# Altium footprint library fci.PcbLib: 2 footprints
Each footprint in its own frame and in the unit in brackets; x right, y up, seen from the top. Pads: shape width x height; smd on the part's side, far side on the other; paste and mask are expansions set on the pad; w line width, h text height; cw(c..) or ccw(c..) is an arc to the next point about the centre after c.
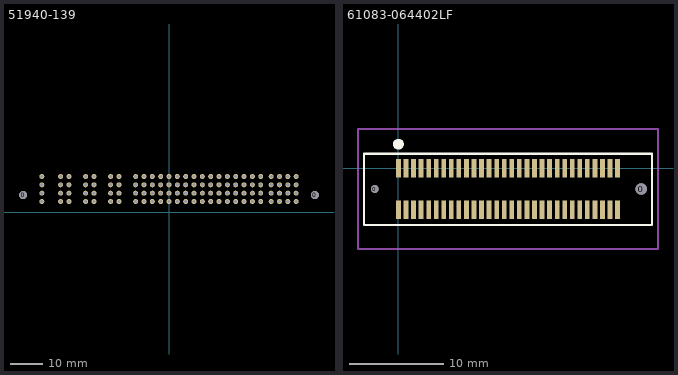
[diagram p0: the footprints below, top view; thin cyan lines are the x and y axes]

## 51940-139 [mm] "Straight Connector for TDI Charger"
pads (110):
  round 2.49 hole 2.49: 0(-44.45,5.21) 0(44.45,5.21)
  round 1.5 hole 1.02: A1(38.735,3.25) A2(36.195,3.25) A3(33.655,3.25) A4(31.115,3.25) A5(-38.735,3.25) B1(38.735,5.79) B2(36.195,5.79) B3(33.655,5.79) B4(31.115,5.79) B5(-38.735,5.79) C1(38.735,8.33) C2(36.195,8.33) C3(33.655,8.33) C4(31.115,8.33) C5(-38.735,8.33) D1(38.735,10.87) D2(36.195,10.87) D3(33.655,10.87) D4(31.115,10.87) D5(-38.735,10.87) P1(25.4,3.25) P1(25.4,5.79) P1(25.4,8.33) P1(25.4,10.87) P1(27.94,3.25) P1(27.94,5.79) P1(27.94,8.33) P1(27.94,10.87) P2(20.32,3.25) P2(20.32,5.79) P2(20.32,8.33) P2(20.32,10.87) P2(22.86,3.25) P2(22.86,5.79) P2(22.86,8.33) P2(22.86,10.87) P3(15.24,3.25) P3(15.24,5.79) P3(15.24,8.33) P3(15.24,10.87) P3(17.78,3.25) P3(17.78,5.79) P3(17.78,8.33) P3(17.78,10.87) P4(10.16,3.25) P4(10.16,5.79) P4(10.16,8.33) P4(10.16,10.87) P4(12.7,3.25) P4(12.7,5.79) P4(12.7,8.33) P4(12.7,10.87) P5(5.08,3.25) P5(5.08,5.79) P5(5.08,8.33) P5(5.08,10.87) P5(7.62,3.25) P5(7.62,5.79) P5(7.62,8.33) P5(7.62,10.87) P6(0,3.25) P6(0,5.79) P6(0,8.33) P6(0,10.87) P6(2.54,3.25) P6(2.54,5.79) P6(2.54,8.33) P6(2.54,10.87) P7(-5.08,3.25) P7(-5.08,5.79) P7(-5.08,8.33) P7(-5.08,10.87) P7(-2.54,3.25) P7(-2.54,5.79) P7(-2.54,8.33) P7(-2.54,10.87) P8(-10.16,3.25) P8(-10.16,5.79) P8(-10.16,8.33) P8(-10.16,10.87) P8(-7.62,3.25) P8(-7.62,5.79) P8(-7.62,8.33) P8(-7.62,10.87) P9(-17.78,3.25) P9(-17.78,5.79) P9(-17.78,8.33) P9(-17.78,10.87) P9(-15.24,3.25) P9(-15.24,5.79) P9(-15.24,8.33) P9(-15.24,10.87) P10(-25.4,3.25) P10(-25.4,5.79) P10(-25.4,8.33) P10(-25.4,10.87) P10(-22.86,3.25) P10(-22.86,5.79) P10(-22.86,8.33) P10(-22.86,10.87) P11(-33.02,3.25) P11(-33.02,5.79) P11(-33.02,8.33) P11(-33.02,10.87) P11(-30.48,3.25) P11(-30.48,5.79) P11(-30.48,8.33) P11(-30.48,10.87)
3D body "51940-139.STEP": height 16.4, standoff -3.43, extent -48.26,1.905 48.26,13.845

## 61083-064402LF [mm] "2x30 pin metric"
pads (62):
  round 0.8 hole 0.8 unplated: 0(-2.5,-2.2)
  round 1.2 hole 1.2 unplated: 0(25.7,-2.2)
  rect 0.5x2 smd: 1(0,0) 2(0,-4.4) 3(0.8,0) 4(0.8,-4.4) 5(1.6,0) 6(1.6,-4.4) 7(2.4,0) 8(2.4,-4.4) 9(3.2,0) 10(3.2,-4.4) 11(4,0) 12(4,-4.4) 13(4.8,0) 14(4.8,-4.4) 15(5.6,0) 16(5.6,-4.4) 17(6.4,0) 18(6.4,-4.4) 19(7.2,0) 20(7.2,-4.4) 21(8,0) 22(8,-4.4) 23(8.8,0) 24(8.8,-4.4) 25(9.6,0) 26(9.6,-4.4) 27(10.4,0) 28(10.4,-4.4) 29(11.2,0) 30(11.2,-4.4) 31(12,0) 32(12,-4.4) 33(12.8,0) 34(12.8,-4.4) 35(13.6,0) 36(13.6,-4.4) 37(14.4,0) 38(14.4,-4.4) 39(15.2,0) 40(15.2,-4.4) 41(16,0) 42(16,-4.4) 43(16.8,0) 44(16.8,-4.4) 45(17.6,0) 46(17.6,-4.4) 47(18.4,0) 48(18.4,-4.4) 49(19.2,0) 50(19.2,-4.4) 51(20,0) 52(20,-4.4) 53(20.8,0) 54(20.8,-4.4) 55(21.6,0) 56(21.6,-4.4) 57(22.4,0) 58(22.4,-4.4) 59(23.2,0) 60(23.2,-4.4)
Top Overlay:
  circle w0.635: c0,2.54 r0.254
  lines w0.254: -3.64,-6.01 -3.64,1.524 26.84,1.524 26.84,-6.01 -3.64,-6.01
Mechanical 15:
  lines w0.254: -4.275,-8.55 -4.275,4.15 27.475,4.15 27.475,-8.55 -4.275,-8.55
3D body "61083-064402LF.STEP": height 7.75, standoff -0.6, extent -3.302,-5.159 26.498,0.841